# Altium schematic symbol library Res_Panasonic_ERJ-3EKF1692V_16.9kOhm.SchLib: 1 symbol
Pins are listed as number, name and electrical type; pins without a type are passive.

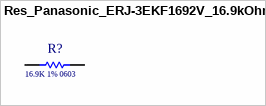
[diagram p0: symbol Res_Panasonic_ERJ-3EKF1692V_16.9kOhm]

## Res_Panasonic_ERJ-3EKF1692V_16.9kOhm
designator R?  Resistance: 16.9K 1% 0603  (hidden comment: Res_Panasonic_ERJ-3EKF1692V_16.9kOhm)
RES SMD 16.9k OHM 5% 1/4W 0603; Supplier 1: Mouser; Supplier Part Number 1: 667-ERJ-3EKF1692V
footprint Res_Panasonic_ERJ-3EKF1692V_16.9kOhm
pins: 1, 2